# Altium footprint library 我的PCB.PcbLib: 347 footprints (part 11 of 22)
Each footprint in its own frame and in the unit in brackets; x right, y up, seen from the top. Pads: shape width x height; smd on the part's side, far side on the other; paste and mask are expansions set on the pad; w line width, h text height; cw(c..) or ccw(c..) is an arc to the next point about the centre after c.
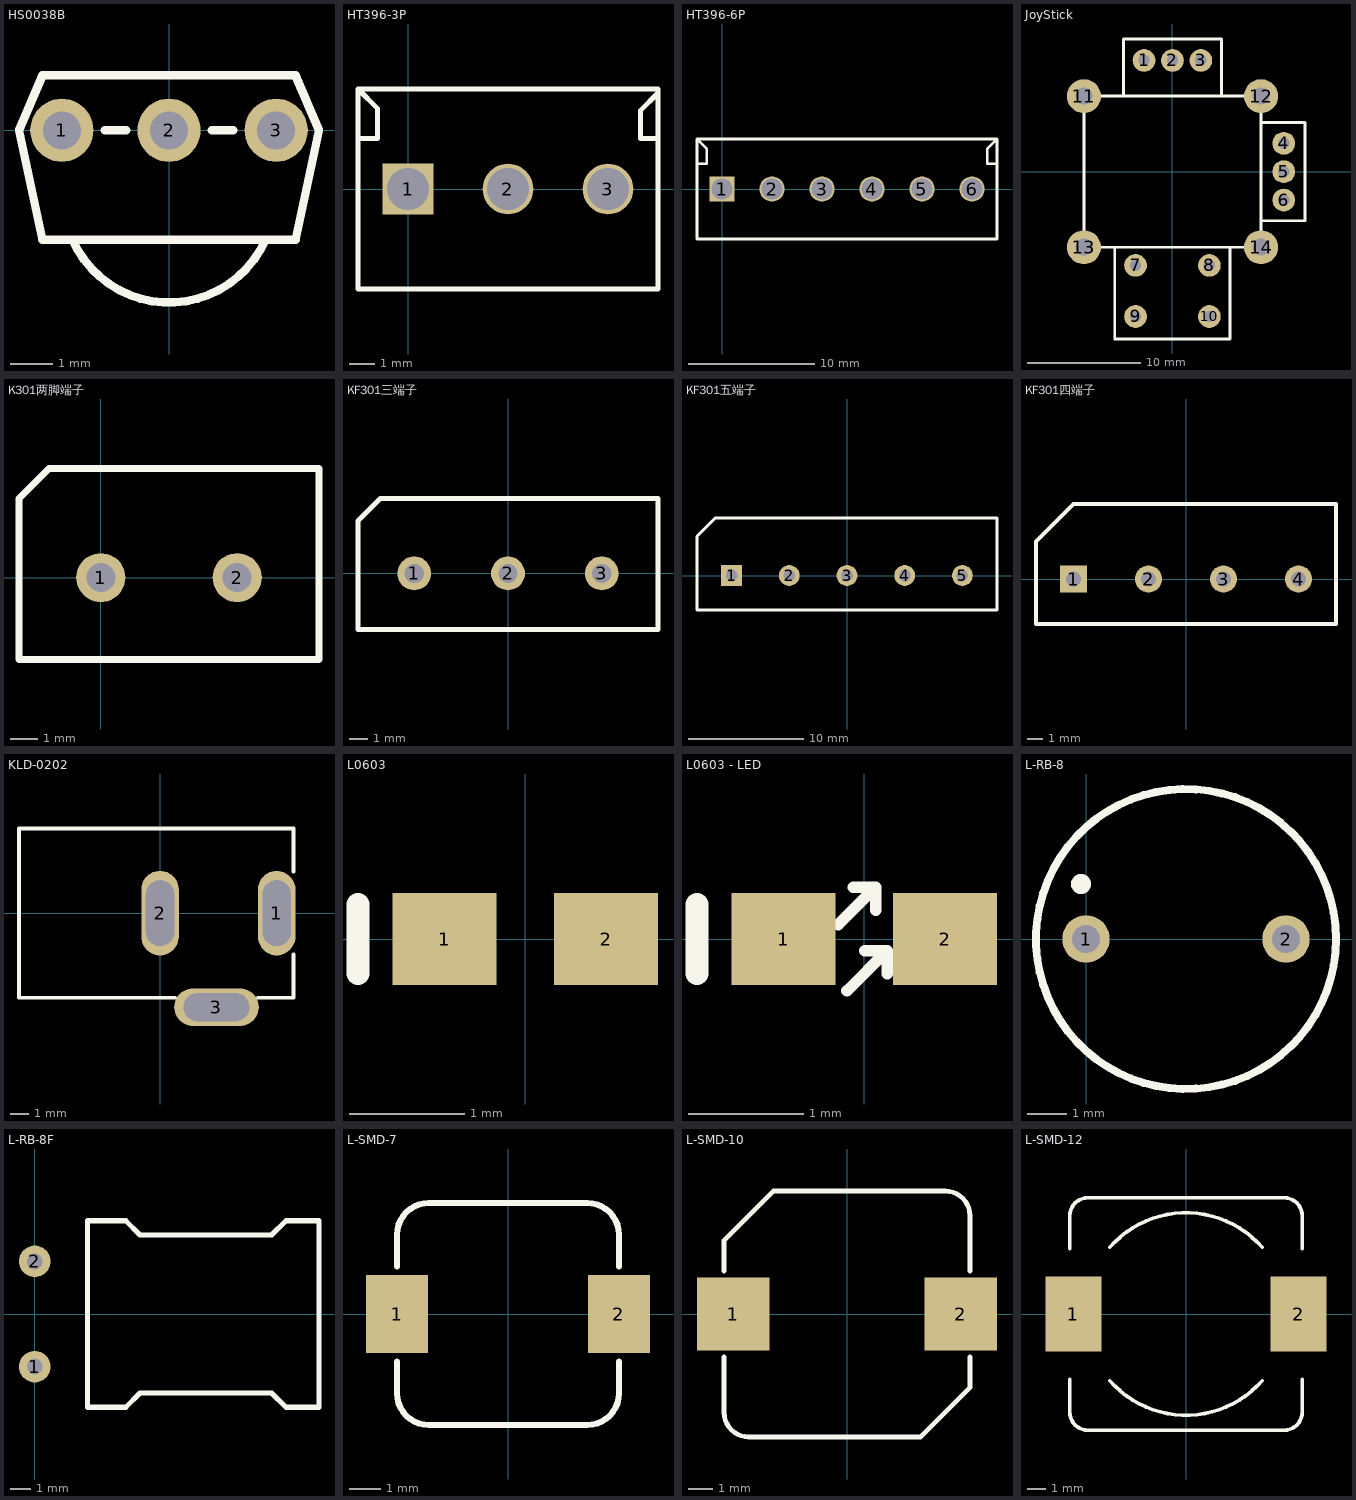
[diagram p10: the footprints below, top view; thin cyan lines are the x and y axes]

## HS0038B [mm] "红外接收头"
height 6.95
pads (3):
  round 1.5 hole 0.9: 1(-2.54,0) 2(0,0) 3(2.54,0)
Top Overlay:
  lines w0.2: -2.285,-2.599 ccw(c0,-1.584) 2.285,-2.599 ; -1.524,0 -1.016,0 ; 1.016,0 1.524,0 ; -3.556,0 -3,1.3 3,1.3 3.556,0 3,-2.6 -3,-2.6 -3.556,0

## HT396-3P [mm]
pads (3):
  rect 2x2 hole 1.67: 1(0,0)
  round 2 hole 1.67: 2(3.96,0) 3(7.92,0)
Top Overlay:
  lines w0.2: -1.98,2 -1.2,2 -1.2,3.18 -1.98,3.96 ; 9.9,2 9.2,2 9.2,3.1 9.9,3.8 ; -1.98,3.96 -1.98,-3.96 9.9,-3.96 9.9,3.96 -1.98,3.96

## HT396-6P [mm]
pads (6):
  rect 2x2 hole 1.67: 1(0,0)
  round 2 hole 1.67: 2(3.96,0) 3(7.92,0) 4(11.88,0) 5(15.84,0) 6(19.8,0)
Top Overlay:
  lines w0.2: -1.98,2 -1.2,2 -1.2,3.18 -1.98,3.96 ; 21.78,2 21,2 21,3.18 21.62,3.8 21.78,3.8 ; -1.98,3.96 21.78,3.96 21.78,-3.96 -1.98,-3.96 -1.98,3.96

## JoyStick [mm] "模Ä"
height 20
pads (14):
  round 2 hole 1: 1(-2.5,9.8) 2(0,9.8) 3(2.5,9.8) 4(9.8,2.5) 5(9.8,0) 6(9.8,-2.5) 7(-3.25,-8.25) 8(3.25,-8.25) 9(-3.25,-12.75) 10(3.25,-12.75)
  round 3 hole 1.5: 11(-7.8,6.65) 12(7.8,6.65) 13(-7.8,-6.65) 14(7.8,-6.65)
Top Overlay:
  lines w0.254: -5.08,-6.65 -5.08,-14.732 5.08,-14.732 5.08,-6.65 ; -4.318,6.65 -4.318,11.684 4.318,11.684 4.318,6.65 ; 7.8,-4.318 11.684,-4.318 11.684,4.318 7.8,4.318 ; -7.8,-6.65 7.8,-6.65 7.8,6.65 -7.8,6.65 -7.8,-6.65

## K301两脚端子 [mil]
pads (2):
  round 71 hole 42: 1(0,0) 2(196.85,0)
Top Overlay:
  region: 196.85,0
  region: 196.85,0
  lines w10: 0,-118.11 -118.11,-118.11 ; -118.11,-118.11 -118.11,114.17 -74.8,157.48 39.37,157.48 ; -118.11,-118.11 314.96,-118.11 314.96,118.11 314.96,157.48 ; 39.37,157.48 314.96,157.48 ; 39.37,157.48 314.96,157.48

## KF301三端子 [mil]
pads (3):
  round 71 hole 40: 1(-196.85,0) 2(0,0) 3(196.85,0)
Top Overlay:
  lines w10: -314.97,-118.1 314.95,-118.1 314.96,157.48 -267.72,157.48 -314.97,110.23 -314.97,-118.1

## KF301五端子 [mil]
pads (5):
  rect 71x71 hole 40: 1(-393.7,0)
  round 71 hole 40: 2(-196.85,0) 3(0,0) 4(196.85,0) 5(393.7,0)
Top Overlay:
  lines w10: -511.81,-118.11 511.81,-118.11 511.81,196.85 -448.82,196.85 -511.81,133.86 -511.81,-118.11

## KF301四端子 [mil]
pads (4):
  rect 71x71 hole 40: 1(-295.28,0)
  round 71 hole 40: 2(-98.43,0) 3(98.43,0) 4(295.28,0)
Top Overlay:
  lines w10: -393.7,-118.11 -393.7,98.43 -295.28,196.85 393.7,196.85 393.7,-118.11 -393.7,-118.11

## KLD-0202 [mm] "DC Power Jack, 2.5mm, KLD Series, PCB Mount"
pads (3):
  oval 2x4.5 hole 1.5 slot 3.5 at 90 deg: 1(6.2,0) 2(0,0)
  oval 4.5x2 hole 1.5 slot 3.5 at 0 deg: 3(3,-5)
Top Overlay:
  lines w0.2: 0.8,-4.5 -7.5,-4.5 -7.5,4.5 7.1,4.5 7.1,2.2 ; 5.2,-4.5 7.1,-4.5 7.1,-2.2
Mechanical 1:
  lines w1: 6.2,-1.25 6.2,1.25

## L0603 [mm] "Chip Inductor; Body 1.6 x 0.8 mm (LxW typ)"
height 0.55
pads (2):
  rect 0.9x0.8 smd: 1(-0.7,0) 2(0.7,0)
Top Overlay:
  lines w0.2: -1.45,-0.3 -1.45,0.3

## L0603 - LED [mm] "Chip Inductor; Body 1.6 x 0.8 mm (LxW typ)"
height 0.55
pads (2):
  rect 0.9x0.8 smd: 1(-0.7,0) 2(0.7,0)
Top Overlay:
  lines w0.1: -0.225,0.125 0.1,0.45 ; -0.15,-0.45 0.2,-0.1 ; -0.095,0.45 0.1,0.45 ; 0.005,-0.1 0.2,-0.1 ; 0.1,0.25 0.1,0.45 ; 0.2,-0.3 0.2,-0.1
  lines w0.2: -1.45,-0.3 -1.45,0.3

## L-RB-8 [mm] "Inductor"
pads (2):
  round 1.2 hole 0.7: 1(0,0) 2(5.08,0)
Top Overlay:
  circle w0.2: c2.54,0 r3.81
  circle w0.254: c-0.127,1.397 r0.127

## L-RB-8F [mil] "ֱ?"
height 472.44
pads (2):
  round 60 hole 30: 1(0,-100) 2(0,100)
Top Overlay:
  lines w10: 100,-177.17 100,177.17 172.83,177.17 200,150 450,150 477.17,177.17 540,177.17 540,-177.17 477.17,-177.17 450,-150 200,-150 172.83,-177.17 100,-177.17

## L-SMD-7 [mm] "贴片电感7*7"
pads (2):
  rect 2x2.5 smd: 1(-3.556,0) 2(3.556,0)
Top Overlay:
  lines w0.2: -3.556,-1.524 -3.556,-2.54 ccw(c-2.54,-2.54) -2.54,-3.556 2.54,-3.556 ccw(c2.54,-2.54) 3.556,-2.54 3.556,-1.524 ; -3.556,1.524 -3.556,2.54 cw(c-2.54,2.54) -2.54,3.556 2.54,3.556 cw(c2.54,2.54) 3.556,2.54 3.556,1.524
3D body: height 4, standoff 0, extent -3.556,-3.556 3.556,3.556

## L-SMD-10 [mm] "贴片电感10*10"
pads (2):
  rect 3x3 smd: 1(-4.699,0) 2(4.699,0)
Top Overlay:
  lines w0.2: -5.08,-1.778 -5.08,-4.064 ccw(c-4.064,-4.064) -4.064,-5.08 3.048,-5.08 5.08,-3.048 5.08,-1.778 ; -5.08,1.778 -5.08,3.048 -3.048,5.08 4.064,5.08 cw(c4.064,4.064) 5.08,4.064 5.08,1.778
3D body: height 4, standoff 0, extent -5.08,-5.08 5.08,5.08

## L-SMD-12 [mm] "贴片电感12*12"
height 4
pads (2):
  rect 3x4 smd: 1(-6,0) 2(6,0)
Top Overlay:
  lines w0.2: -6.2,-3.475 -6.2,-5.23 ccw(c-5.23,-5.23) -5.23,-6.2 5.23,-6.2 ccw(c5.23,-5.23) 6.2,-5.23 6.2,-3.475 ; -6.2,3.475 -6.2,5.23 cw(c-5.23,5.23) -5.23,6.2 5.23,6.2 cw(c5.23,5.23) 6.2,5.23 6.2,3.475 ; -4.064,-3.556 ccw(c0,0) 4.064,-3.556 ; -4.064,3.556 cw(c0,0) 4.064,3.556
3D body: height 0.6, standoff 0, extent -6.207,-6.233 6.207,6.182
3D body: height 2.5, standoff 0.3, extent -5.273,-5.303 5.315,5.29